# Altium schematic symbol library Termal controller.SchLib: 33 symbols
Pins are listed as number, name and electrical type; pins without a type are passive.

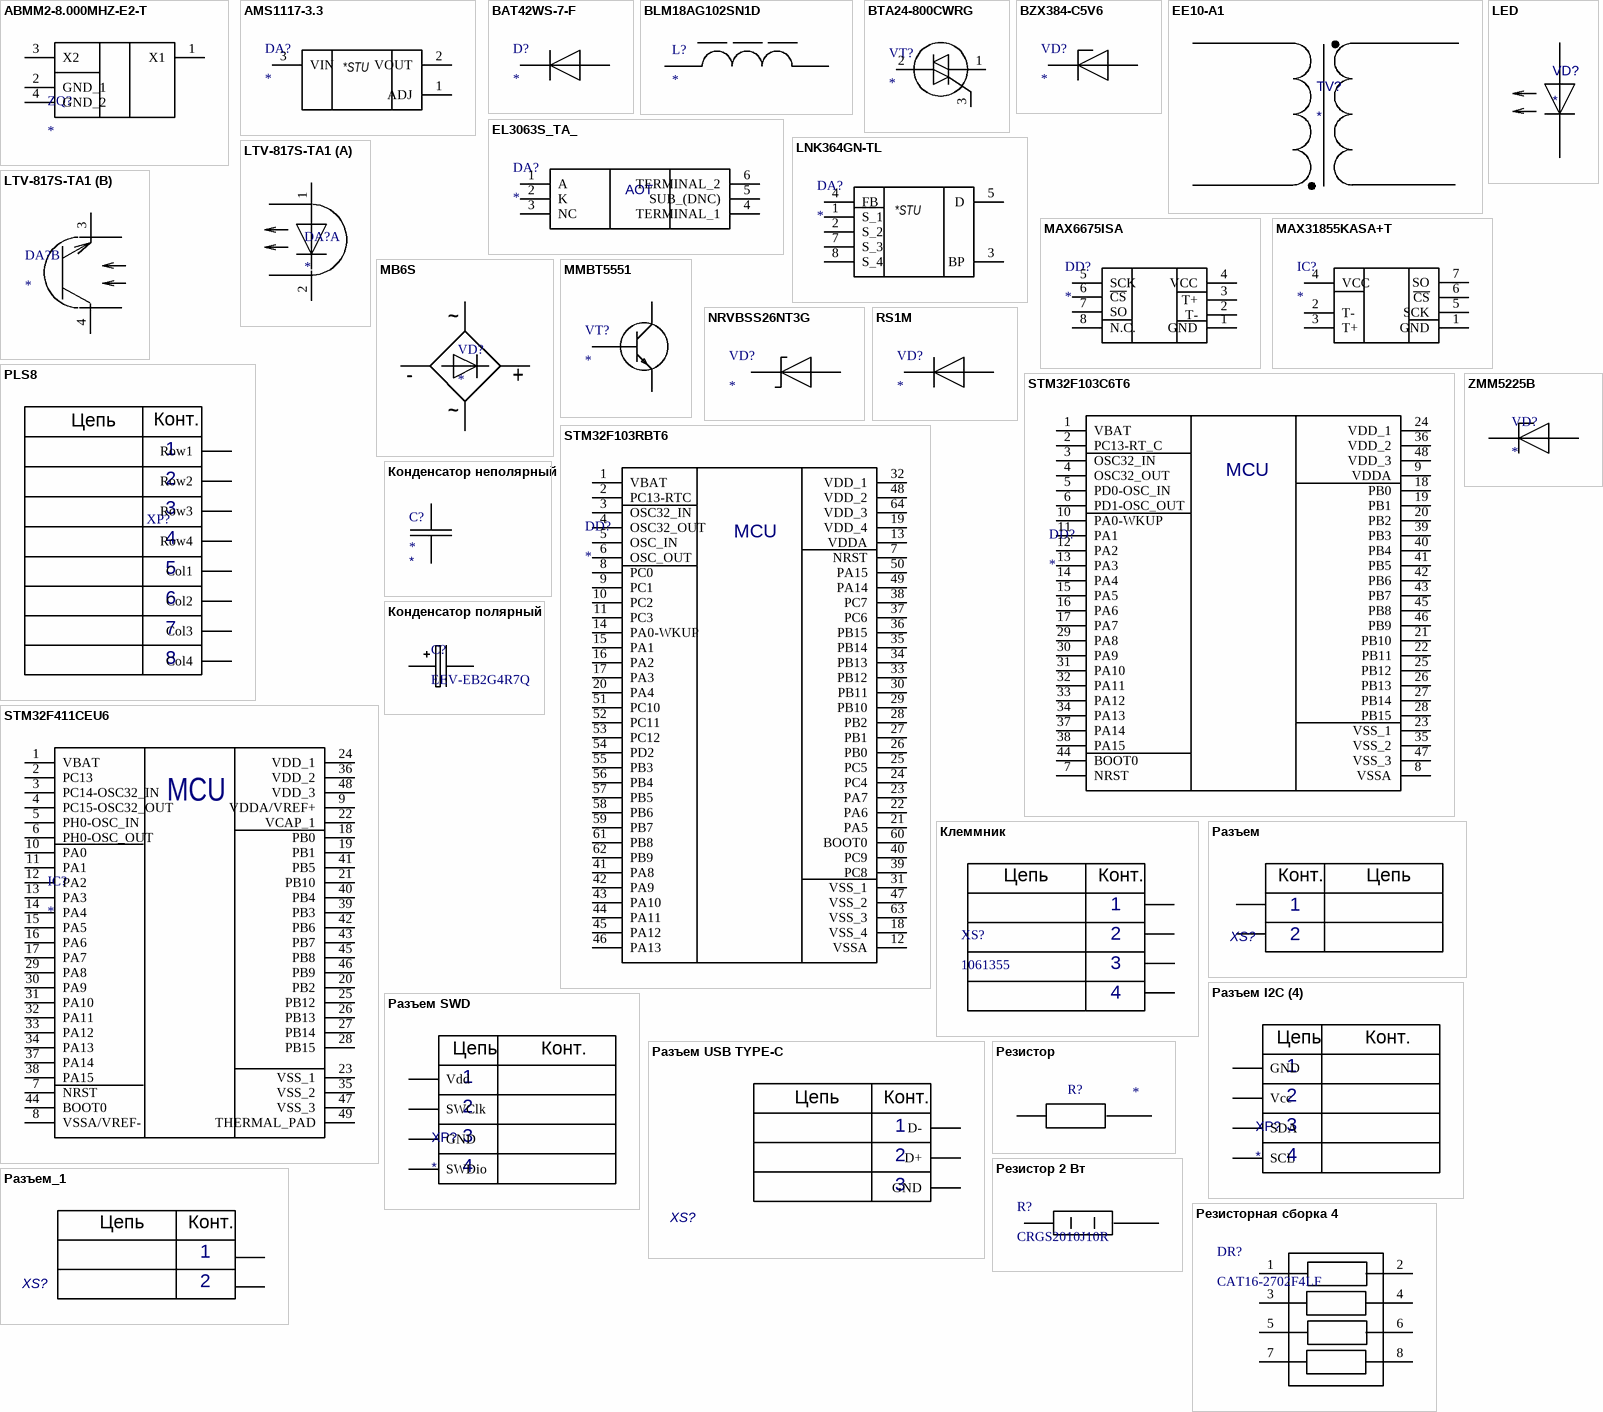
[diagram p0: symbols ABMM2-8.000MHZ-E2-T to Резисторная сборка 4]

## ABMM2-8.000MHZ-E2-T
designator ZQ?
Crystal or Oscillator; Manufacturer_Name: ABRACON; Manufacturer_Part_Number: ABMM2-8.000MHZ-E2-T; Datasheet Link: https://abracon.com/Resonators/ABMM2.pdf; Height: 1.2mm; Mouser Part Number: 815-ABMM2-8-E2T; Mouser Price/Stock: https://www.mouser.co.uk/ProductDetail/ABRACON/ABMM2-8.000MHZ-E2-T?qs=m%252BUhWDcpCfaGlLHGChx47g%3D%3D; Arrow Part Number: ABMM2-8.000MHZ-E2-T; Arrow Price/Stock: https://www.arrow.com/en/products/abmm2-8.000mhz-e2-t/abracon?utm_currency=USD&region=nac
footprint ABMM2
pins: 1 X1, 2 GND_1, 3 X2, 4 GND_2

## AMS1117-3.3
designator DA?
Integrated Circuit; Manufacturer_Name: Advanced; Manufacturer_Part_Number: AMS1117-3.3; Datasheet Link: https://datasheet.datasheetarchive.com/originals/distributors/Datasheets-28/DSA-550594.pdf; Height: 1.8mm
footprint SOT229P700X180-4N
pins: 1 ADJ, 2 VOUT, 3 VIN
text: *STU

## BAT42WS-7-F
designator D?
Diode; Manufacturer_Name: Diodes Incorporated; Manufacturer_Part_Number: BAT42WS-7-F; Datasheet Link: https://www.diodes.com//assets/Datasheets/ds30100.pdf; Height: 1.2mm; Mouser Part Number: 621-BAT42WS-F; Mouser Price/Stock: https://www.mouser.co.uk/ProductDetail/Diodes-Incorporated/BAT42WS-7-F?qs=m4hD82FvRu0XtK2r8jLwYA%3D%3D; Arrow Part Number: BAT42WS-7-F; Arrow Price/Stock: https://www.arrow.com/en/products/bat42ws-7-f/diodes-incorporated?utm_currency=USD&region=europe
footprint SOD2513X120N
pins: 1 K, 2 A

## BLM18AG102SN1D
designator L?
Ferrite Bead; Manufacturer_Name: Murata Electronics; Manufacturer_Part_Number: BLM18AG102SN1D; Datasheet Link: http://www.murata.com/~/media/webrenewal/support/library/catalog/products/emc/emifil/c31e.ashx?la=en-gb; Height: 0.95mm; Mouser Part Number: 81-BLM11A102S; Mouser Price/Stock: https://www.mouser.co.uk/ProductDetail/Murata-Electronics/BLM18AG102SN1D?qs=b2kFoOhrN4V4XjRBmusv4w%3D%3D; Arrow Part Number: BLM18AG102SN1D; Arrow Price/Stock: https://www.arrow.com/en/products/blm18ag102sn1d/murata-manufacturing?utm_currency=USD&region=nac
footprint BLM18SP221SN1B
pins: 1, 2

## BTA24-800CWRG
designator VT?
Triac A; Manufacturer_Name: STMicroelectronics; Manufacturer_Part_Number: BTA24-800CWRG; Datasheet Link: http://www.st.com/content/ccc/resource/technical/document/datasheet/da/b9/e2/fa/76/a3/40/9b/CD00002264.pdf/files/CD00002264.pdf/jcr:content/translations/en.CD00002264.pdf; Height: 4.6mm; Mouser Part Number: 511-BTA24-800CW; Mouser Price/Stock: https://www.mouser.co.uk/ProductDetail/STMicroelectronics/BTA24-800CWRG?qs=J0fHR8QSRK8TBQKNN3f7Zg%3D%3D; Arrow Part Number: BTA24-800CWRG; Arrow Price/Stock: https://www.arrow.com/en/products/bta24-800cwrg/stmicroelectronics?utm_currency=USD&region=europe
footprint TO255P460X1020X2005-3P
pins: 1 A1, 2 A2, 3 G

## BZX384-C5V6
designator VD?
Diode; Manufacturer_Name: Nexperia; Manufacturer_Part_Number: BZX384-C5V6; Datasheet Link: https://datasheet.datasheetarchive.com/originals/distributors/Datasheets-20/DSA-380039.pdf; Height: 1.1mm; Mouser Part Number: N/A; Mouser Price/Stock: https://www.mouser.com/Search/Refine.aspx?Keyword=N%2FA
footprint SOD2512X110N
pins: 1 K, 2 A

## EE10-A1
designator TV?
Импульсный трансформатор 220V; 5-12V; P=1-3W; 100-200kHz
footprint EE10-A1
pins: 1 Vin, 4, 5, 8 Vout

## EL3063S_TA_
designator DA?
Integrated Circuit; Manufacturer_Name: Everlight; Manufacturer_Part_Number: EL3063S(TA); Datasheet Link: https://www.mouser.com/datasheet/2/143/EL303X_EL304X_EL306X_EL308X-515384.pdf; Height: 4.6mm; Mouser Part Number: 638-EL3063STA; Mouser Price/Stock: https://www.mouser.com/Search/Refine.aspx?Keyword=638-EL3063STA; Arrow Part Number: EL3063S(TA); Arrow Price/Stock: https://www.arrow.com/en/products/el3063s-ta/everlight-electronics
footprint SOP254P1030X460-6N
pins: 1 A, 2 K, 3 NC, 4 TERMINAL_1, 5 SUB_(DNC), 6 TERMINAL_2
text: АОТ

## LED
designator VD?
footprint LED Red 5 мм
pins: 1 ANODE, 2 CATHODE

## LNK364GN-TL
designator DA?
AC-DC контроллер; Manufacturer_Name: Power Integrations; Manufacturer_Part_Number: LNK364GN-TL; Datasheet Link: https://www.power.com/sites/default/files/product-docs/lnk362-364.pdf; Height: 3.68mm; Mouser Part Number: 869-LNK364GN-TL; Mouser Price/Stock: https://www.mouser.co.uk/ProductDetail/Power-Integrations/LNK364GN-TL?qs=Jph8NoUxIfUMH738%2FE3y8A%3D%3D
footprint LNK364GNTL
pins: 1 S_1, 2 S_2, 3 BP, 4 FB, 5 D, 7 S_3, 8 S_4
text: *STU

## LTV-817S-TA1
designator DA?
Integrated Circuit; Manufacturer_Name: Lite-On; Manufacturer_Part_Number: LTV-817S-TA1; Datasheet Link: http://optoelectronics.liteon.com/upload/download/DS-70-96-0016/LTV-8X7%20series%20201610%20.pdf; Height: 4mm; Mouser Part Number: 859-LTV-817S-TA1; Mouser Price/Stock: https://www.mouser.co.uk/ProductDetail/Lite-On/LTV-817S-TA1?qs=gnaPJ2cis705dA%252BrXNgReQ%3D%3D; Arrow Part Number: LTV-817S-TA1; Arrow Price/Stock: https://www.arrow.com/en/products/ltv-817s-ta1/lite-on-technology?utm_currency=USD&region=nac
footprint SOP254P1016X400-4N
part A pins: 1 ANODE, 2 CATHODE
part B pins: 3 E, 4 C

## MAX6675ISA
designator DD?
Integrated Circuit; Manufacturer_Name: Analog Devices; Manufacturer_Part_Number: MAX6675ISA; Datasheet Link: http://datasheets.maximintegrated.com/en/ds/MAX6675.pdf; Height: 1.75mm; Mouser Part Number: N/A; Mouser Price/Stock: https://www.mouser.com/Search/Refine.aspx?Keyword=N%2FA
footprint SOIC127P600X175-8N
pins: 1 GND, 2 T-, 3 T+, 4 VCC, 5 SCK, 6 ~{CS}, 7 SO, 8 N.C.

## MAX31855KASA+T
designator IC?
Integrated Circuit; Manufacturer_Name: Analog Devices; Manufacturer_Part_Number: MAX31855KASA+T; Datasheet Link: https://datasheets.maximintegrated.com/en/ds/MAX31855.pdf; Height: 1.75mm; Mouser Part Number: 700-MAX31855KASA+T; Mouser Price/Stock: https://www.mouser.co.uk/ProductDetail/Analog-Devices-Maxim-Integrated/MAX31855KASA%2bT?qs=ffX8NcjNb2TujkrPyW1z%252Bg%3D%3D; Arrow Part Number: MAX31855KASA+T; Arrow Price/Stock: https://www.arrow.com/en/products/max31855kasat/analog-devices?utm_currency=USD&region=nac
footprint SOIC127P600X175-8N
pins: 1 GND, 2 T-, 3 T+, 4 VCC, 5 SCK, 6 ~{CS}, 7 SO

## MB6S
designator VD?
Bridge Rectifier; Manufacturer_Name: Guangdong Hottech; Manufacturer_Part_Number: MB6S; Height: 1.9mm
footprint SOP250P700X190-4N
pins: 1 +, 2 -, 3 ~, 4 ~

## MMBT5551
designator VT?
Transistor BJT NPN; Manufacturer_Name: Guangdong Hottech; Manufacturer_Part_Number: MMBT5551; Datasheet Link: https://doc.hotking.com/wr/specification/specification-en/MMBT5551_SOT-23.pdf; Height: 1.15mm
footprint MMBT5551
pins: 1 B, 2 E, 3 C

## NRVBSS26NT3G
designator VD?
Schottky Diode; Manufacturer_Name: onsemi; Manufacturer_Part_Number: NRVBSS26NT3G; Datasheet Link: https://www.onsemi.com/pub/Collateral/SS26-D.PDF; Height: 2.47mm; Mouser Part Number: 863-NRVBSS26NT3G; Mouser Price/Stock: https://www.mouser.co.uk/ProductDetail/ON-Semiconductor/NRVBSS26NT3G/?qs=xZ%2FP%252Ba9zWqaNJTeScEpd%252Bw%3D%3D
footprint DIOM5436X247N
pins: 1 K, 2 A

## PLS8
designator XP?, comment PLS3  (value not drawn)
footprint PLS8
pins: 1 Row1, 2 Row2, 3 Row3, 4 Row4, 5 Col1, 6 Col2, 7 Col3, 8 Col4
text: Цепь; Конт.

## RS1M
designator VD?
Diode; Manufacturer_Name: Multicomp Pro; Manufacturer_Part_Number: RS1M; Datasheet Link: http://www.farnell.com/datasheets/2863960.pdf; Height: 2.62mm
footprint DIOM5026X262N
pins: 1 K, 2 A

## STM32F103C6T6
designator DD?
Integrated Circuit; Manufacturer_Name: STMicroelectronics; Manufacturer_Part_Number: STM32F103C6T6; Datasheet Link: https://componentsearchengine.com/Datasheets/1/STM32F103C6T6.pdf; Height: 1.6mm; Mouser Part Number: 511-STM32F103C6T6; Mouser Price/Stock: https://www.mouser.co.uk/ProductDetail/STMicroelectronics/STM32F103C6T6?qs=bhCVus9SdFtB0KJ69B96Fw%3D%3D
footprint QFP50P900X900X160-48N
pins: 1 VBAT, 2 PC13-RT_C, 3 OSC32_IN, 4 OSC32_OUT, 5 PD0-OSC_IN, 6 PD1-OSC_OUT, 7 NRST, 8 VSSA, 9 VDDA, 10 PA0-WKUP, 11 PA1, 12 PA2, 13 PA3, 14 PA4, 15 PA5, 16 PA6, 17 PA7, 18 PB0, 19 PB1, 20 PB2, 21 PB10, 22 PB11, 23 VSS_1, 24 VDD_1, 25 PB12, 26 PB13, 27 PB14, 28 PB15, 29 PA8, 30 PA9, 31 PA10, 32 PA11, 33 PA12, 34 PA13, 35 VSS_2, 36 VDD_2, 37 PA14, 38 PA15, 39 PB3, 40 PB4, 41 PB5, 42 PB6, 43 PB7, 44 BOOT0, 45 PB8, 46 PB9, 47 VSS_3, 48 VDD_3
text: MCU

## STM32F103RBT6
designator DD?
Integrated Circuit; Manufacturer_Name: STMicroelectronics; Manufacturer_Part_Number: STM32F103RBT6; Datasheet Link: http://www.st.com/st-web-ui/static/active/en/resource/technical/document/datasheet/CD00161566.pdf; Height: 1.6mm; Mouser Part Number: 511-STM32F103RBT6; Mouser Price/Stock: https://www.mouser.co.uk/ProductDetail/STMicroelectronics/STM32F103RBT6?qs=bhCVus9SdFv12dJRZaBmJg%3D%3D; Arrow Part Number: STM32F103RBT6; Arrow Price/Stock: https://www.arrow.com/en/products/stm32f103rbt6/stmicroelectronics?utm_currency=USD&region=nac
footprint QFP50P1200X1200X160-64N
pins: 1 VBAT, 2 PC13-RTC, 3 OSC32_IN, 4 OSC32_OUT, 5 OSC_IN, 6 OSC_OUT, 7 NRST, 8 PC0, 9 PC1, 10 PC2, 11 PC3, 12 VSSA, 13 VDDA, 14 PA0-WKUP, 15 PA1, 16 PA2, 17 PA3, 18 VSS_4, 19 VDD_4, 20 PA4, 21 PA5, 22 PA6, 23 PA7, 24 PC4, 25 PC5, 26 PB0, 27 PB1, 28 PB2, 29 PB10, 30 PB11, 31 VSS_1, 32 VDD_1, 33 PB12, 34 PB13, 35 PB14, 36 PB15, 37 PC6, 38 PC7, 39 PC8, 40 PC9, 41 PA8, 42 PA9, 43 PA10, 44 PA11, 45 PA12, 46 PA13, 47 VSS_2, 48 VDD_2, 49 PA14, 50 PA15, 51 PC10, 52 PC11, 53 PC12, 54 PD2, 55 PB3, 56 PB4, 57 PB5, 58 PB6, 59 PB7, 60 BOOT0, 61 PB8, 62 PB9, 63 VSS_3, 64 VDD_3
text: MCU

## STM32F411CEU6
designator IC?
Integrated Circuit; Manufacturer_Name: STMicroelectronics; Manufacturer_Part_Number: STM32F411CEU6; Datasheet Link: https://www.st.com/resource/en/datasheet/stm32f411ce.pdf; Height: 0.6mm; Mouser Part Number: 511-STM32F411CEU6; Mouser Price/Stock: https://www.mouser.co.uk/ProductDetail/STMicroelectronics/STM32F411CEU6?qs=pjMTYa9MTGV3ou31YBFa3g%3D%3D; Arrow Part Number: STM32F411CEU6; Arrow Price/Stock: https://www.arrow.com/en/products/stm32f411ceu6/stmicroelectronics?utm_currency=USD&region=nac
footprint QFN50P700X700X60-49N-D
pins: 1 VBAT, 2 PC13, 3 PC14-OSC32_IN, 4 PC15-OSC32_OUT, 5 PH0-OSC_IN, 6 PH0-OSC_OUT, 7 NRST, 8 VSSA/VREF-, 9 VDDA/VREF+, 10 PA0, 11 PA1, 12 PA2, 13 PA3, 14 PA4, 15 PA5, 16 PA6, 17 PA7, 18 PB0, 19 PB1, 20 PB2, 21 PB10, 22 VCAP_1, 23 VSS_1, 24 VDD_1, 25 PB12, 26 PB13, 27 PB14, 28 PB15, 29 PA8, 30 PA9, 31 PA10, 32 PA11, 33 PA12, 34 PA13, 35 VSS_2, 36 VDD_2, 37 PA14, 38 PA15, 39 PB3, 40 PB4, 41 PB5, 42 PB6, 43 PB7, 44 BOOT0, 45 PB8, 46 PB9, 47 VSS_3, 48 VDD_3, 49 THERMAL_PAD
text: MCU

## ZMM5225B
designator VD?
Diac; Manufacturer_Name: STMicroelectronics; Manufacturer_Part_Number: TMMDB3TG; Datasheet Link: https://www.st.com/resource/en/datasheet/tmmdb3tg.pdf; Height: 1.7mm; Mouser Part Number: 511-TMMDB3TG; Mouser Price/Stock: https://www.mouser.co.uk/ProductDetail/STMicroelectronics/TMMDB3TG?qs=lgHKUCmDFtju6xjvp%2FOseQ%3D%3D; Arrow Part Number: TMMDB3TG; Arrow Price/Stock: https://www.arrow.com/en/products/tmmdb3tg/stmicroelectronics?region=nac
footprint TMMDB3TG
pins: 1 K, 2 A

## Клеммник
designator XS?, comment 1061355
Connector; Manufacturer_Name: Phoenix Contact; Manufacturer_Part_Number: 1377627; Datasheet Link: https://product-download.phoenixcontact.com/8000100?response-content-disposition=inline;%20filename%3D%22pxc_1377627_01_01_MKDSO-1-5-4-R-3-5-KMGY-VPE100_2D.pdf%22&Expires=1708535608&Signature=cTxEG9UPgrURb~7bwdyFuox2u27Y5mWGkNAgeIwx-lXxKvljRkim8VX9hwYWqNH; Height: 10.95mm
footprint 1061355
footprint 1377627
pins: 1 *, 2 *, 3 *, 4 *
text: Цепь; Конт.

## Конденсатор неполярный
designator C?
Capacitor; Manufacturer_Name: KEMET; Manufacturer_Part_Number: CC0402KRX7R7BB222; Datasheet Link: https://componentsearchengine.com/Datasheets/34/CC0402KRX7R7BB222.pdf; Height: 0.55mm; Value: *
footprint C1206
footprint C0402
footprint С0603
footprint B81123C1472M000
pins: 1, 2

## Конденсатор полярный
designator C?, comment EEV-EB2G4R7Q
Capacitor Polarised; Manufacturer_Name: Panasonic; Datasheet Link: http://industrial.panasonic.com/cdbs/www-data/pdf/RDE0000/ABA0000C1202.pdf; Height: 17mm; Manufacturer_Part_Number: EEV-EB2G4R7Q; Mouser Part Number: 667-EEV-EB2G4R7Q; Mouser Price/Stock: https://www.mouser.co.uk/ProductDetail/Panasonic/EEV-EB2G4R7Q?qs=h4ONpho3ypMX7%2FLtZhu%252BqQ%3D%3D; Arrow Part Number: EEV-EB2G4R7Q; Arrow Price/Stock: https://www.arrow.com/en/products/eeveb2g4r7q/panasonic?region=nac
footprint CAPAE1030X1700N
footprint EEE0JA152UAP
pins: 1 +, 2 -

## Разъем
designator XS?, comment S2B-PH-K-S  (value not drawn)
Гнездо провод-плата;; Value: *
footprint S2B-PH-K-S
footprint ED350V-02P
pins: 1 *, 2 *
text: Конт.; Цепь

## Разъем I2C (4)
designator XP?
footprint PLS4
pins: 1 GND, 2 Vcc, 3 SDA, 4 SCL
text: Цепь; Конт.

## Разъем SWD
designator XP?
footprint PLS4
pins: 1 Vdd, 2 SWClk, 3 GND, 4 SWDio
text: Цепь; Конт.

## Разъем USB TYPE-C
designator XS?
1054500101, Разъем USB TYPE-C, USB 3.1, розетка, 24 вывод(-ов), Поверхностный Монтаж, Прямой Угол, Molex; Value: *
footprint Разъем USB TYPE-C, 1054500101
pins: A1 GND, A6 D+, A7 D-
text: Цепь; Конт.; 1; 2; 3

## Разъем_1
designator XS?, comment S2B-PH-K-S  (value not drawn)
Гнездо провод-плата;; Value: *
footprint S2B-PH-K-S
footprint ED350V-02P
pins: 1 *, 2 *
text: Цепь; Конт.

## Резистор
designator R?, comment R0402  (value not drawn)
Units: Ом; Value: *
footprint R0402
footprint R1206
pins: 1, 2 0

## Резистор 2 Вт
designator R?, comment CRGS2010J10R
Resistor; Manufacturer_Name: TE Connectivity; Datasheet Link: http://www.te.com/commerce/DocumentDelivery/DDEController?Action=showdoc&DocId=Data+Sheet%7F9-1773463-8%7FB%7Fpdf%7FEnglish%7FENG_DS_9-1773463-8_B.pdf%7F3-2176251-0; Height: 0.65mm; Manufacturer_Part_Number: CRGS2010J10R; Mouser Part Number: 279-CRGS2010J10R; Mouser Price/Stock: https://www.mouser.co.uk/ProductDetail/TE-Connectivity-Holsworthy/CRGS2010J10R?qs=Rv6LVDxB0ZqF0MPdEdt49w%3D%3D; Arrow Part Number: CRGS2010J10R; Arrow Price/Stock: https://www.arrow.com/en/products/crgs2010j10r/te-connectivity?utm_currency=USD&region=nac
footprint RESC5025X65N
pins: 1, 2 0

## Резисторная сборка 4
designator DR?, comment CAT16-2702F4LF
Resistor Network; Manufacturer_Name: Bourns; Value: 27K; Datasheet Link: https://bourns.com/docs/product-datasheets/catcay.pdf?sfvrsn=eae9f7ea_24; Height: 0.6mm; Manufacturer_Part_Number: CAT16-2702F4LF; Mouser Part Number: 652-CAT16-2702F4LF; Mouser Price/Stock: http://www.mouser.com/Search/ProductDetail.aspx?qs=2cU%252bdy8NdRo19krE2bXLqQ%3d%3d; Arrow Part Number: CAT16-2702F4LF; Arrow Price/Stock: https://www.arrow.com/en/products/cat16-2702f4lf/bourns
footprint 1206x4 (Footprint not found)
pins: 1, 2, 3, 4, 5, 6, 7, 8